# Altium schematic symbol library Jumper 2.SchLib: 1 symbol
Pins are listed as number, name and electrical type; pins without a type are passive.

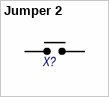
[diagram p0: symbol Jumper 2]

## Jumper 2
designator X?  (value not drawn)
Jumper, 2-Pin, Dual row; Потребление, Вт: 0,0; Наименование: Jumper 2-pin; Назначение: Jumper, 2-Pin, Dual row
footprint PLS2-2
footprint PLS-2 (2.54mm PIN HEADER R/A)
pins: 1, 2